# EAGLE library part ATMEGA32U4 (library SW_Microcontroller)
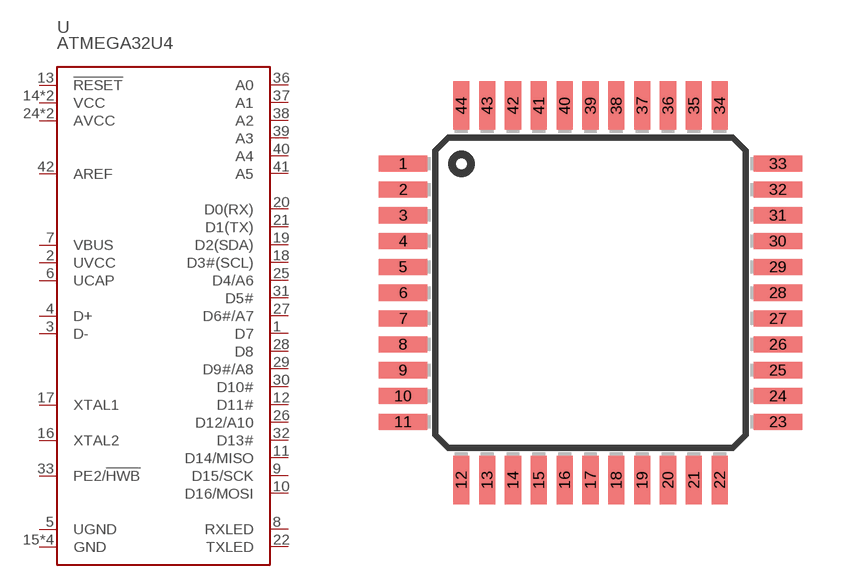
[diagram p2: symbol with the pads of TQFP44; footprint TQFP44]

Designator prefix U

## ATMEGA32U4TQFP-44 (CATEGORY: Microcontroller; DESCRIPTION: AVR series Microcontroller IC 8-Bit 16MHz 32KB (16K x 16) FLASH 44-TQFP (10x10); MFGS: Microchip Technology; MPNS: ATMEGA32U4RC-AUR; PACKAGE: TQFP-44; PART_NUMBER: ATmega32U4 (44-TQFP); SW_PART_NUMBER: SW0000008)  [TQFP44]
1  D7
2  UVCC
3  D-
4  D+
5  UGND
6  UCAP
7  VBUS
8  RXLED
9  D15/SCK
10  D16/MOSI
11  D14/MISO
12  D11#
13  !RESET
14  VCC
15  GND
16  XTAL2
17  XTAL1
18  D3#(SCL)
19  D2(SDA)
20  D0(RX)
21  D1(TX)
22  TXLED
23  GND
24  AVCC
25  D4/A6
26  D12/A10
27  D6#/A7
28  D8
29  D9#/A8
30  D10#
31  D5#
32  D13#
33  PE2/!HWB
34  VCC
35  GND
36  A0
37  A1
38  A2
39  A3
40  A4
41  A5
42  AREF
43  GND
44  AVCC

## Footprint TQFP44 (pad centres in mm)
smd 1.5 x 0.5: 1 -5.8,4; 2 -5.8,3.2; 3 -5.8,2.4; 4 -5.8,1.6; 5 -5.8,0.8; 6 -5.8,0; 7 -5.8,-0.8; 8 -5.8,-1.6; 9 -5.8,-2.4; 10 -5.8,-3.2; 11 -5.8,-4; 23 5.8,-4; 24 5.8,-3.2; 25 5.8,-2.4; 26 5.8,-1.6; 27 5.8,-0.8; 28 5.8,0; 29 5.8,0.8; 30 5.8,1.6; 31 5.8,2.4; 32 5.8,3.2; 33 5.8,4
smd 0.5 x 1.5: 12 -4,-5.8; 13 -3.2,-5.8; 14 -2.4,-5.8; 15 -1.6,-5.8; 16 -0.8,-5.8; 17 0,-5.8; 18 0.8,-5.8; 19 1.6,-5.8; 20 2.4,-5.8; 21 3.2,-5.8; 22 4,-5.8; 34 4,5.8; 35 3.2,5.8; 36 2.4,5.8; 37 1.6,5.8; 38 0.8,5.8; 39 0,5.8; 40 -0.8,5.8; 41 -1.6,5.8; 42 -2.4,5.8; 43 -3.2,5.8; 44 -4,5.8